# Altium schematic symbol library SCH - PASSIVES - CAPACITOR - B32672L.SCHLIB: 1 symbol
Pins are listed as number, name and electrical type; pins without a type are passive.

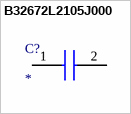
[diagram p0: symbol B32672L2105J000]

## B32672L2105J000
designator C?
Capacitor; Manufacturer_Name: TDK; Manufacturer_Part_Number: B32672L2105J000; Datasheet Link: https://product.tdk.com/en/search/capacitor/film/mkp_mfp/info?part_no=B32672L2105J000; Height: 18.5mm
pins: 1, 2